# EAGLE library part ADM3054 (library counter)
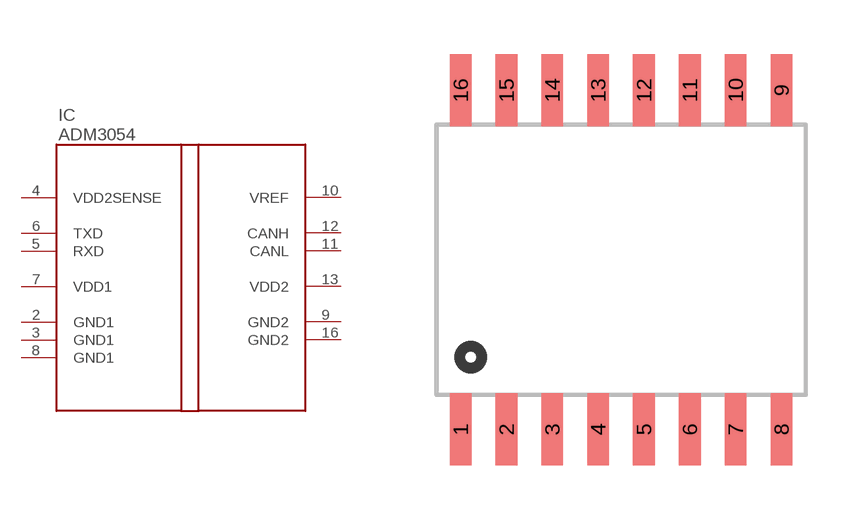
[diagram p6: symbol with the pads of SOIC-16; footprint SOIC-16]

Designator prefix IC

## ADM3054 (PARTNO: ADM3054WBRWZ)  [SOIC-16]
2  GND1
3  GND1
4  VDD2SENSE
5  RXD
6  TXD
7  VDD1
8  GND1
9  GND2
10  VREF
11  CANL
12  CANH
13  VDD2
16  GND2

## Footprint SOIC-16 (pad centres in mm)
smd 0.6 x 2: 1 -5.08,-4.7; 2 -3.81,-4.7; 3 -2.54,-4.7; 4 -1.27,-4.7; 5 0,-4.7; 6 1.27,-4.7; 7 2.54,-4.7; 8 3.81,-4.7; 9 3.81,4.7; 10 2.54,4.7; 11 1.27,4.7; 12 0,4.7; 13 -1.27,4.7; 14 -2.54,4.7; 15 -3.81,4.7; 16 -5.08,4.7